# Altium footprint library G3VM-41LR6(TR05).PcbLib: 1 footprints
Each footprint in its own frame and in the unit in brackets; x right, y up, seen from the top. Pads: shape width x height; smd on the part's side, far side on the other; paste and mask are expansions set on the pad; w line width, h text height; cw(c..) or ccw(c..) is an arc to the next point about the centre after c.
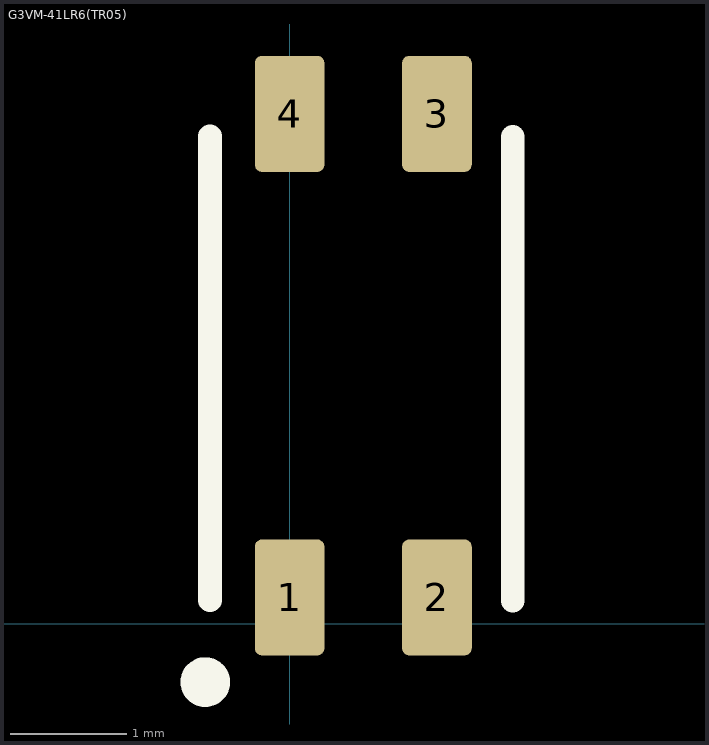
[diagram p0: the footprint, top view; thin cyan lines are the x and y axes]

## G3VM-41LR6(TR05) [mm]
pads (4):
  rrect20% 0.6x1 smd: 1(0,0.229) 2(1.27,0.229) 3(1.27,4.397) 4(0,4.397)
TopOverlay:
  circle w0.254: c-0.727,-0.501 r0.087
  lines w0.203: -0.686,0.203 -0.686,4.203 ; 1.924,0.2 1.924,4.2
3D body: height 1.8, standoff 0, extent -0.384,0.186 1.654,4.386